# Altium integrated library ICs_Regulators.IntLib: 5 symbols
Pins are listed as number, name and electrical type; pins without a type are passive.

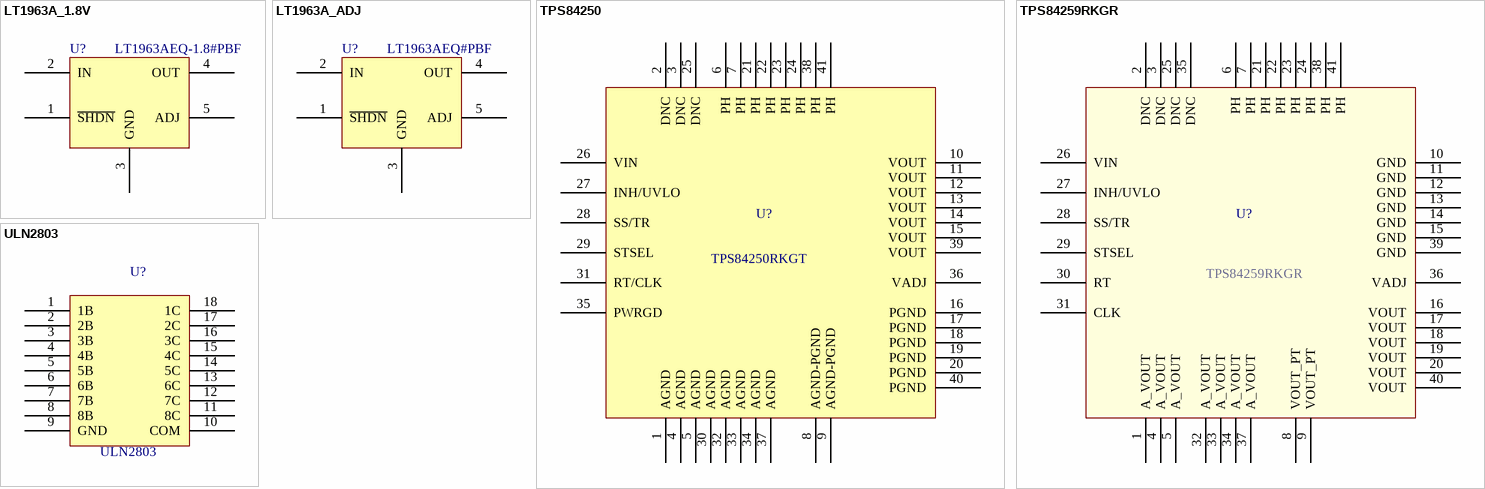
[diagram p0: symbols LT1963A_1.8V to ULN2803]

## LT1963A_1.8V
designator U?, comment Manufacturer Part Number: LT1963AEQ-1.8#PBF  (hidden comment: LT1963AEQ#PBF)
Regulator, 2-20V Input, Low-noise, Fixed output; Manufacturer: Linear Technology; Description: IC REG LDO 1.8V 1.5A D2PAK; Number of Regulators: 1; Regulator Topology: Positive Fixed; Voltage - Input: Up to 20V; Voltage - Output: 1.8V; Voltage - Dropout (Typical): 0.34V @ 1.5A; Current - Output: 1.5A; Current - Limit (Min): 1.6A; Supplier 1: Digi-Key; RoHS: RoHS Compliant; Category: Integrated Circuits (ICs); Stock 1: 924; Pricing 1: 1=5.53, 25=3.6704, 100=2.94 (USD); Packaging: Tube; Operating Temperature: -40°C ~ 125°C; Mounting Type: Surface Mount; Package / Case: TO-263-6, D²Pak (5 Leads + Tab), TO-263BA; Supplier Device Package: D2PAK-5; ComponentLink1URL: http://www.linear.com/docs/3709; ComponentLink1Description: http://www.linear.com/docs/3709; Supplier Part Number 1: LT1963AEQ-1.8#PBF-ND
footprint DD_PAK
pins: 1 ~{SHDN}, 2 IN, 3 GND, 4 OUT, 5 ADJ

## LT1963A_ADJ
designator U?, comment LT1963AEQ#PBF
Regulator, 2-20V Input, Low-noise, Adj output; Manufacturer: Linear Technology; Description: IC REG LDO ADJ 1.5A D2PAK; Number of Regulators: 1; Regulator Topology: Positive Adjustable; Voltage - Input: 2.1 V ~ 20 V; Voltage - Output: 1.21 V ~ 20 V; Voltage - Dropout (Typical): 0.34V @ 1.5A; Current - Output: 1.5A; Current - Limit (Min): 1.6A; Supplier 1: Digi-Key; Manufacturer Part Number: LT1963AEQ#PBF; RoHS: RoHS Compliant; Category: Integrated Circuits (ICs); Stock 1: 4077; Pricing 1: 1=5.53, 25=3.6704, 100=2.94 (USD); Packaging: Tube; Operating Temperature: -40°C ~ 125°C; Mounting Type: Surface Mount; Package / Case: TO-263-6, D²Pak (5 Leads + Tab), TO-263BA; Supplier Device Package: D2PAK-5; ComponentLink1URL: http://www.linear.com/docs/3709; ComponentLink1Description: http://www.linear.com/docs/3709; Supplier Part Number 1: LT1963AEQ#PBF-ND
footprint DD_PAK
pins: 1 ~{SHDN}, 2 IN, 3 GND, 4 OUT, 5 ADJ

## TPS84250
designator U?, comment TPS84250RKGT
Power Supply; Manufacturer: Texas Instruments; Manufacturer Part Number: TPS84250RKGR; Power (Watts) - Manufacture Series: 38W; Description: IC REG BUCK ADJ 2.5A 41B1QFN; Number of Outputs: 1; Voltage - Input (Min): 7V; Voltage - Input (Max): 50V; Voltage - Output 1: 2.5 ~ 15 V; Current - Output (Max): 2.5A; Efficiency: 96%; Supplier 1: Digi-Key; RoHS: RoHS non-compliant; Category: Power Supplies - Board Mount; Stock 1: 1279; Pricing 1: 1=12.77, 10=11.588, 25=10.7436, 100=7.5938, 250=7.45312 (USD); Packaging: Cut Tape (CT); Type: Non-Isolated PoL Module; Voltage - Output 2: -; Voltage - Output 3: -; Voltage - Isolation: -; Features: OCP, OTP, UVLO; Mounting Type: Surface Mount; Package / Case: 41-BQFN; Size / Dimension: 0.43" L x 0.35" W x 0.11" H (11.0mm x 9.0mm x 2.8mm); Operating Temperature: -40°C ~ 85°C; Power (Watts) - Max: 38W; ComponentLink1URL: http://www.ti.com/lit/ds/symlink/tps84250.pdf; ComponentLink1Description: http://www.ti.com/lit/ds/symlink/tps84250.pdf; Supplier Part Number 1: 296-34944-1-ND
footprint QFN - 41 PIN, TI (QFN, 32-Leads, Body 9.1x11.1mm (max), Pitch 0.90mm, IPC Medium Density)
pins: 1 AGND, 2 DNC, 3 DNC, 4 AGND, 5 AGND, 6 PH, 7 PH, 8 AGND-PGND, 9 AGND-PGND, 10 VOUT, 11 VOUT, 12 VOUT, 13 VOUT, 14 VOUT, 15 VOUT, 16 PGND, 17 PGND, 18 PGND, 19 PGND, 20 PGND, 21 PH, 22 PH, 23 PH, 24 PH, 25 DNC, 26 VIN, 27 INH/UVLO, 28 SS/TR, 29 STSEL, 30 AGND, 31 RT/CLK, 32 AGND, 33 AGND, 34 AGND, 35 PWRGD, 36 VADJ, 37 AGND, 38 PH, 39 VOUT, 40 PGND, 41 PH

## TPS84259RKGR
designator U?
IC REG BUCK NEG ADJ 41B1QFN; Manufacturer: Texas Instruments; Power (Watts) - Manufacture Series: 15W; Number of Outputs: 1; Voltage - Input (Min): 4.5V; Voltage - Input (Max): 40V; Voltage - Output 1: -3 ~ -17 V; Current - Output (Max): 2A; Efficiency: 86%; Supplier 1: Digi-Key; RoHS: RoHS Compliant; Category: Power Supplies - Board Mount; Stock 1: 790; Pricing 1: 1=13.79, 10=12.515, 25=11.6032, 100=8.2013, 250=8.04936 (USD); Packaging: Cut Tape (CT); Type: Non-Isolated PoL Module; Voltage - Output 2: -; Voltage - Output 3: -; Voltage - Isolation: -; Features: OCP, OTP, UVLO; Mounting Type: Surface Mount; Package / Case: 41-BQFN; Size / Dimension: 0.43" L x 0.35" W x 0.11" H (11.0mm x 9.0mm x 2.8mm); Operating Temperature: -40°C ~ 85°C; Power (Watts) - Max: 15W; ComponentLink1URL: http://www.ti.com/lit/ds/symlink/tps84259.pdf; ComponentLink1Description: http://www.ti.com/lit/ds/symlink/tps84259.pdf; Supplier Part Number 1: 296-34945-1-ND; Manufacturer Part Number: TPS84259RKGR
footprint QFN - 41 PIN, TI (QFN, 32-Leads, Body 9.1x11.1mm (max), Pitch 0.90mm, IPC Medium Density)
pins: 1 A_VOUT, 2 DNC, 3 DNC, 4 A_VOUT, 5 A_VOUT, 6 PH, 7 PH, 8 VOUT_PT, 9 VOUT_PT, 10 GND, 11 GND, 12 GND, 13 GND, 14 GND, 15 GND, 16 VOUT, 17 VOUT, 18 VOUT, 19 VOUT, 20 VOUT, 21 PH, 22 PH, 23 PH, 24 PH, 25 DNC, 26 VIN, 27 INH/UVLO, 28 SS/TR, 29 STSEL, 30 RT, 31 CLK, 32 A_VOUT, 33 A_VOUT, 34 A_VOUT, 35 DNC, 36 VADJ, 37 A_VOUT, 38 PH, 39 GND, 40 VOUT, 41 PH

## ULN2803
designator U?
Darlington transistor array, level shifter; Manufacturer: Texas Instruments; Manufacturer Part Number: ULN2803ADWR; Description: TRANS 8 NPN DARL 50V 500MA 18SO; Transistor Type: 8 NPN Darlington; Current - Collector (Ic) (Max): 500mA; Voltage - Collector Emitter Breakdown (Max): 50V; Vce Saturation (Max) @ Ib, Ic: 1.6V @ 500µA, 350mA; Supplier 1: Digi-Key; RoHS: RoHS Compliant; Category: Discrete Semiconductor Products; Stock 1: 28124; Pricing 1: 1=0.9, 10=0.798, 25=0.72, 100=0.63, 250=0.55252, 500=0.49, 1000=0.3875 (USD); Packaging: Digi-Reel®; Current - Collector Cutoff (Max): -; DC Current Gain (hFE) (Min) @ Ic, Vce: -; Power - Max: -; Frequency - Transition: -; Mounting Type: Surface Mount; Package / Case: 18-SOIC (0.295", 7.50mm Width); Supplier Device Package: 18-SOIC; ComponentLink1URL: http://www.ti.com/lit/ds/symlink/uln2803a.pdf; ComponentLink1Description: http://www.ti.com/lit/ds/symlink/uln2803a.pdf; Supplier Part Number 1: 296-15777-6-ND
footprint SOIC18-300
pins: 1 1B, 2 2B, 3 3B, 4 4B, 5 5B, 6 6B, 7 7B, 8 8B, 9 GND, 10 COM, 11 8C, 12 7C, 13 6C, 14 5C, 15 4C, 16 3C, 17 2C, 18 1C